# Altium schematic symbol library 52435-2871.SchLib: 1 symbol
Pins are listed as number, name and electrical type; pins without a type are passive.

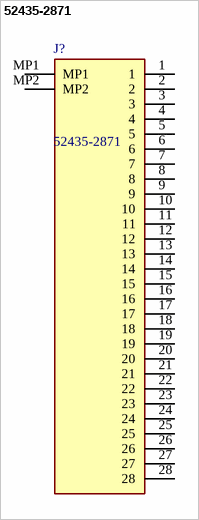
[diagram p0: symbol 52435-2871]

## 52435-2871
designator J?
Molex 52435 Series 0.5mm Pitch 28 Way 1 Row Right Angle FPC Connector, Gold Plated Contacts; Geometry.Height: 2mm; Manufacturer_Name: Molex; Manufacturer_Part_Number: 52435-2871; Mouser Part Number: 538-52435-2871; Mouser Price/Stock: https://www.mouser.co.uk/ProductDetail/Molex/52435-2871?qs=nDwhpid8gJaPoR8mew6yQg%3D%3D; Arrow Part Number: *; Arrow Price/Stock: *; Datasheet Link: https://www.molex.com/pdm_docs/sd/524352871_sd.pdf
footprint 524352871
pins: 1, 2, 3, 4, 5, 6, 7, 8, 9, 10, 11, 12, 13, 14, 15, 16, 17, 18, 19, 20, 21, 22, 23, 24, 25, 26, 27, 28, MP1, MP2